# EAGLE library part M16C/22(144PIN) (library renesas_mcu)
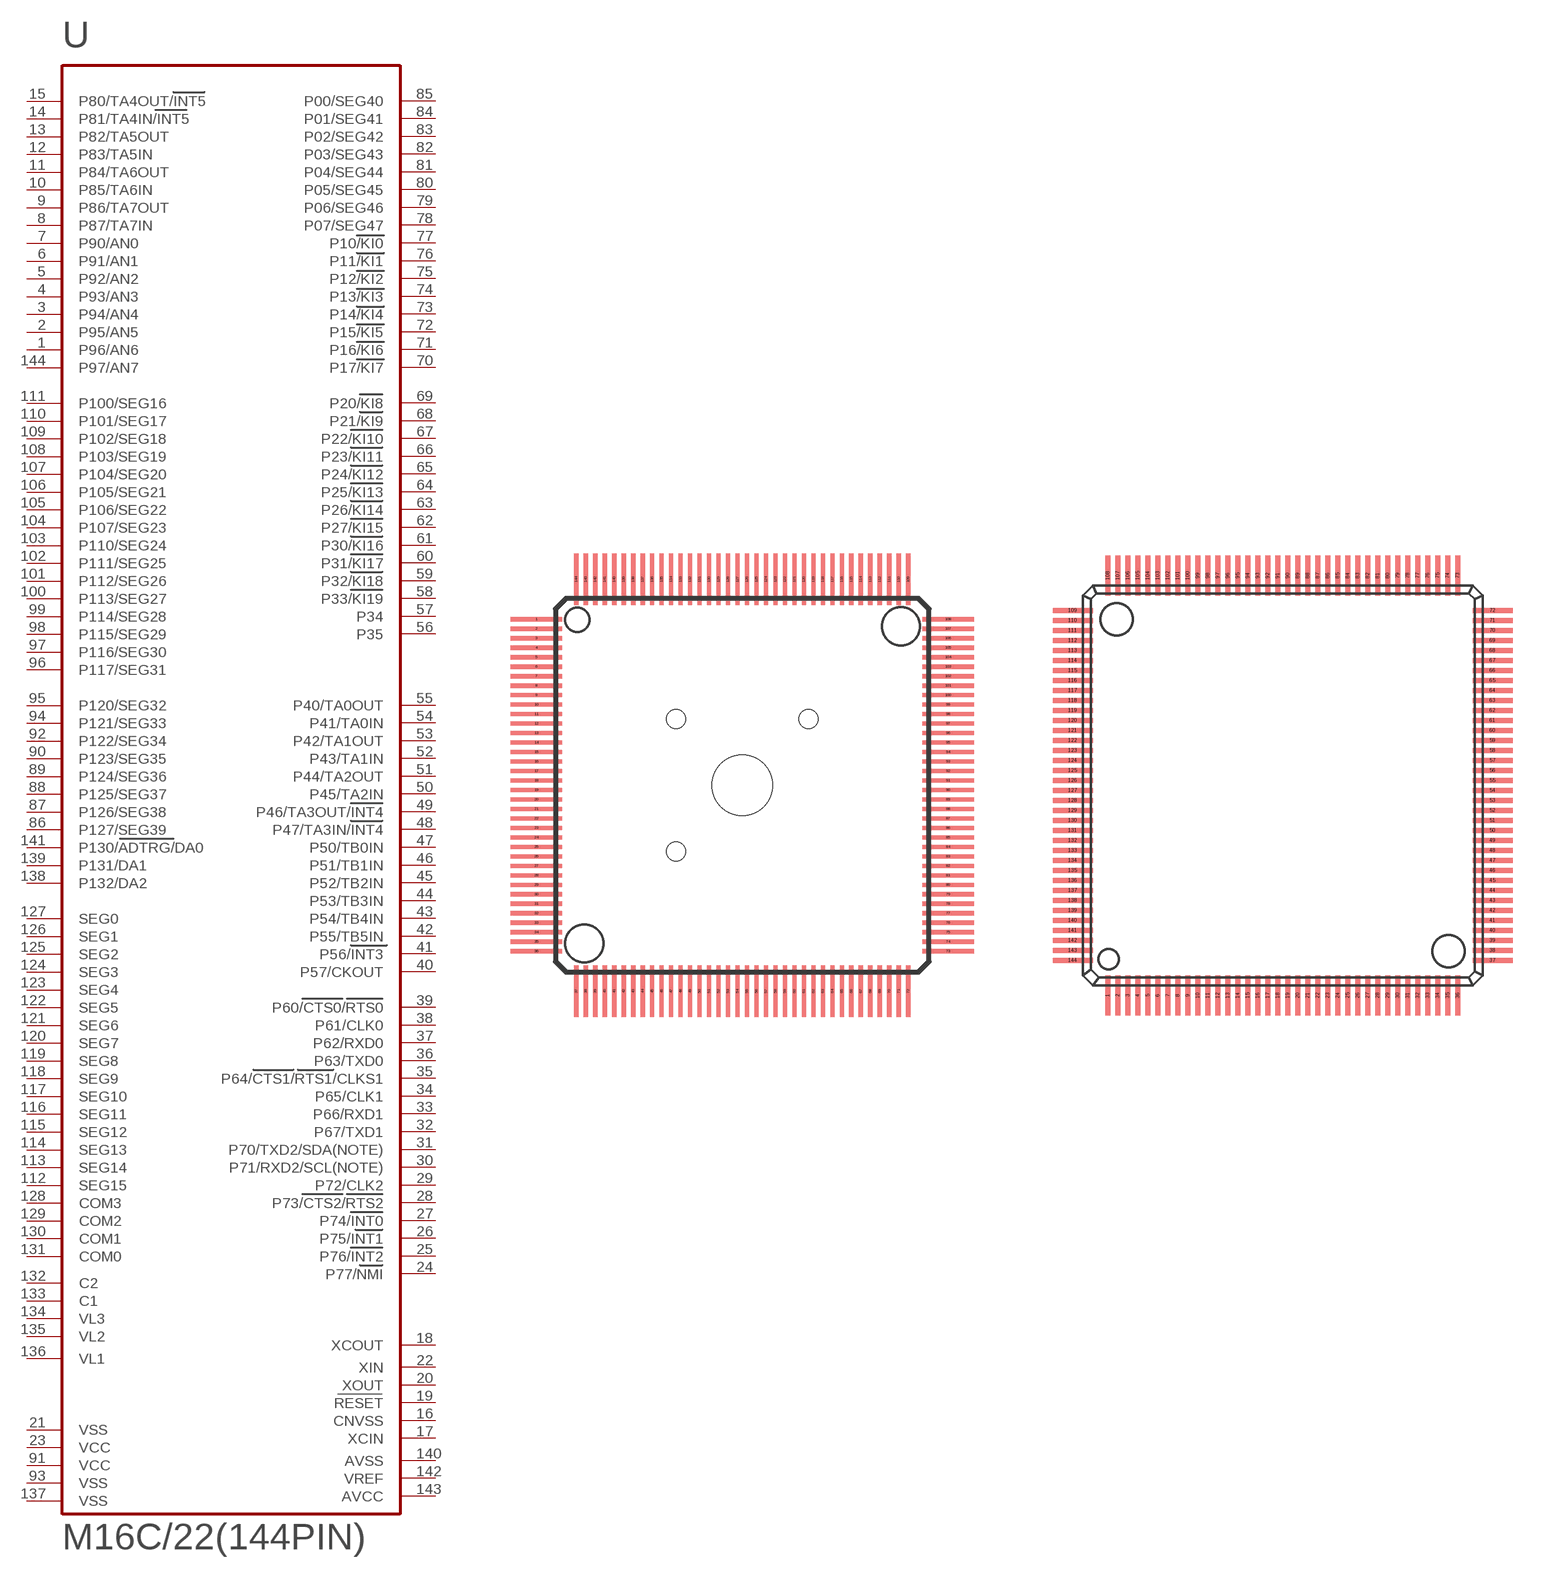
[diagram p15: symbol with the pads of 144P6Q-A(SOCKET); footprints 144P6Q-A(SOCKET), 144P6Q-A]

Designator prefix -

## M16C/22(144PIN)2  [144P6Q-A(SOCKET)]
1  P96/AN6
2  P95/AN5
3  P94/AN4
4  P93/AN3
5  P92/AN2
6  P91/AN1
7  P90/AN0
8  P87/TA7IN
9  P86/TA7OUT
10  P85/TA6IN  in
11  P84/TA6OUT
12  P83/TA5IN
13  P82/TA5OUT
14  P81/TA4IN/INT5
15  P80/TA4OUT/INT5
16  CNVSS  in
17  XCIN  in
18  XCOUT  out
19  RESET  in
20  XOUT  out
21  VSS  pwr
22  XIN  in
23  VCC  pwr
24  P77/NMI
25  P76/INT2
26  P75/INT1
27  P74/INT0
28  P73/CTS2/RTS2
29  P72/CLK2
30  P71/RXD2/SCL(NOTE)
31  P70/TXD2/SDA(NOTE)
32  P67/TXD1
33  P66/RXD1
34  P65/CLK1
35  P64/CTS1/RTS1/CLKS1
36  P63/TXD0
37  P62/RXD0
38  P61/CLK0
39  P60/CTS0/RTS0
40  P57/CKOUT
41  P56/INT3
42  P55/TB5IN
43  P54/TB4IN
44  P53/TB3IN
45  P52/TB2IN
46  P51/TB1IN
47  P50/TB0IN
48  P47/TA3IN/INT4
49  P46/TA3OUT/INT4
50  P45/TA2IN
51  P44/TA2OUT
52  P43/TA1IN
53  P42/TA1OUT
54  P41/TA0IN
55  P40/TA0OUT
56  P35
57  P34
58  P33/KI19
59  P32/KI18
60  P31/KI17
61  P30/KI16
62  P27/KI15
63  P26/KI14
64  P25/KI13
65  P24/KI12
66  P23/KI11
67  P22/KI10
68  P21/KI9
69  P20/KI8
70  P17/KI7
71  P16/KI6
72  P15/KI5
73  P14/KI4
74  P13/KI3
75  P12/KI2
76  P11/KI1
77  P10/KI0
78  P07/SEG47
79  P06/SEG46
80  P05/SEG45
81  P04/SEG44
82  P03/SEG43
83  P02/SEG42
84  P01/SEG41
85  P00/SEG40
86  P127/SEG39
87  P126/SEG38
88  P125/SEG37
89  P124/SEG36
90  P123/SEG35
91  VCC  pwr
92  P122/SEG34
93  VSS  pwr
94  P121/SEG33
95  P120/SEG32
96  P117/SEG31
97  P116/SEG30
98  P115/SEG29
99  P114/SEG28
100  P113/SEG27
101  P112/SEG26
102  P111/SEG25
103  P110/SEG24
104  P107/SEG23
105  P106/SEG22
106  P105/SEG21
107  P104/SEG20
108  P103/SEG19
109  P102/SEG18
110  P101/SEG17
111  P100/SEG16
112  SEG15  out
113  SEG14  out
114  SEG13  out
115  SEG12  out
116  SEG11  out
117  SEG10  out
118  SEG9  out
119  SEG8  out
120  SEG7  out
121  SEG6  out
122  SEG5  out
123  SEG4  out
124  SEG3  out
125  SEG2  out
126  SEG1  out
127  SEG0  out
128  COM3  out
129  COM2  out
130  COM1  out
131  COM0  out
132  C2  in
133  C1  in
134  VL3  in
135  VL2  in
136  VL1  in
137  VSS  pwr
138  P132/DA2
139  P131/DA1
140  AVSS  in
141  P130/ADTRG/DA0
142  VREF  in
143  AVCC  in
144  P97/AN7

## M16C/22(144PIN)1  [144P6Q-A]
Pads as for 144P6Q-A(SOCKET)

## Footprint 144P6Q-A(SOCKET) (pad centres in mm)
smd 2.7 x 0.225: 1 -10.85,8.75; 2 -10.85,8.25; 3 -10.85,7.75; 4 -10.85,7.25; 5 -10.85,6.75; 6 -10.85,6.25; 7 -10.85,5.75; 8 -10.85,5.25; 9 -10.85,4.75; 10 -10.85,4.25; 11 -10.85,3.75; 12 -10.85,3.25; 13 -10.85,2.75; 14 -10.85,2.25; 15 -10.85,1.75; 16 -10.85,1.25; 17 -10.85,0.75; 18 -10.85,0.25; 19 -10.85,-0.25; 20 -10.85,-0.75; 21 -10.85,-1.25; 22 -10.85,-1.75; 23 -10.85,-2.25; 24 -10.85,-2.75; 25 -10.85,-3.25; 26 -10.85,-3.75; 27 -10.85,-4.25; 28 -10.85,-4.75; 29 -10.85,-5.25; 30 -10.85,-5.75; 31 -10.85,-6.25; 32 -10.85,-6.75; 33 -10.85,-7.25; 34 -10.85,-7.75; 35 -10.85,-8.25; 36 -10.85,-8.75; 73 10.85,-8.75; 74 10.85,-8.25; 75 10.85,-7.75; 76 10.85,-7.25; 77 10.85,-6.75; 78 10.85,-6.25; 79 10.85,-5.75; 80 10.85,-5.25; 81 10.85,-4.75; 82 10.85,-4.25; 83 10.85,-3.75; 84 10.85,-3.25; 85 10.85,-2.75; 86 10.85,-2.25; 87 10.85,-1.75; 88 10.85,-1.25; 89 10.85,-0.75; 90 10.85,-0.25; 91 10.85,0.25; 92 10.85,0.75; 93 10.85,1.25; 94 10.85,1.75; 95 10.85,2.25; 96 10.85,2.75; 97 10.85,3.25; 98 10.85,3.75; 99 10.85,4.25; 100 10.85,4.75; 101 10.85,5.25; 102 10.85,5.75; 103 10.85,6.25; 104 10.85,6.75; 105 10.85,7.25; 106 10.85,7.75; 107 10.85,8.25; 108 10.85,8.75
smd 0.225 x 2.7: 37 -8.75,-10.85; 38 -8.25,-10.85; 39 -7.75,-10.85; 40 -7.25,-10.85; 41 -6.75,-10.85; 42 -6.25,-10.85; 43 -5.75,-10.85; 44 -5.25,-10.85; 45 -4.75,-10.85; 46 -4.25,-10.85; 47 -3.75,-10.85; 48 -3.25,-10.85; 49 -2.75,-10.85; 50 -2.25,-10.85; 51 -1.75,-10.85; 52 -1.25,-10.85; 53 -0.75,-10.85; 54 -0.25,-10.85; 55 0.25,-10.85; 56 0.75,-10.85; 57 1.25,-10.85; 58 1.75,-10.85; 59 2.25,-10.85; 60 2.75,-10.85; 61 3.25,-10.85; 62 3.75,-10.85; 63 4.25,-10.85; 64 4.75,-10.85; 65 5.25,-10.85; 66 5.75,-10.85; 67 6.25,-10.85; 68 6.75,-10.85; 69 7.25,-10.85; 70 7.75,-10.85; 71 8.25,-10.85; 72 8.75,-10.85; 109 8.75,10.85; 110 8.25,10.85; 111 7.75,10.85; 112 7.25,10.85; 113 6.75,10.85; 114 6.25,10.85; 115 5.75,10.85; 116 5.25,10.85; 117 4.75,10.85; 118 4.25,10.85; 119 3.75,10.85; 120 3.25,10.85; 121 2.75,10.85; 122 2.25,10.85; 123 1.75,10.85; 124 1.25,10.85; 125 0.75,10.85; 126 0.25,10.85; 127 -0.25,10.85; 128 -0.75,10.85; 129 -1.25,10.85; 130 -1.75,10.85; 131 -2.25,10.85; 132 -2.75,10.85; 133 -3.25,10.85; 134 -3.75,10.85; 135 -4.25,10.85; 136 -4.75,10.85; 137 -5.25,10.85; 138 -5.75,10.85; 139 -6.25,10.85; 140 -6.75,10.85; 141 -7.25,10.85; 142 -7.75,10.85; 143 -8.25,10.85; 144 -8.75,10.85
hole 3.2 at 0,0
hole 1 at -3.5,3.5
hole 1 at 3.5,3.5
hole 1 at -3.5,-3.5

## Footprint 144P6Q-A (pad centres in mm)
smd 0.25 x 2: 1 -8.75,-10.5; 2 -8.25,-10.5; 3 -7.75,-10.5; 4 -7.25,-10.5; 5 -6.75,-10.5; 6 -6.25,-10.5; 7 -5.75,-10.5; 8 -5.25,-10.5; 9 -4.75,-10.5; 10 -4.25,-10.5; 11 -3.75,-10.5; 12 -3.25,-10.5; 13 -2.75,-10.5; 14 -2.25,-10.5; 15 -1.75,-10.5; 16 -1.25,-10.5; 17 -0.75,-10.5; 18 -0.25,-10.5; 19 0.25,-10.5; 20 0.75,-10.5; 21 1.25,-10.5; 22 1.75,-10.5; 23 2.25,-10.5; 24 2.75,-10.5; 25 3.25,-10.5; 26 3.75,-10.5; 27 4.25,-10.5; 28 4.75,-10.5; 29 5.25,-10.5; 30 5.75,-10.5; 31 6.25,-10.5; 32 6.75,-10.5; 33 7.25,-10.5; 34 7.75,-10.5; 35 8.25,-10.5; 36 8.75,-10.5; 73 8.75,10.5; 74 8.25,10.5; 75 7.75,10.5; 76 7.25,10.5; 77 6.75,10.5; 78 6.25,10.5; 79 5.75,10.5; 80 5.25,10.5; 81 4.75,10.5; 82 4.25,10.5; 83 3.75,10.5; 84 3.25,10.5; 85 2.75,10.5; 86 2.25,10.5; 87 1.75,10.5; 88 1.25,10.5; 89 0.75,10.5; 90 0.25,10.5; 91 -0.25,10.5; 92 -0.75,10.5; 93 -1.25,10.5; 94 -1.75,10.5; 95 -2.25,10.5; 96 -2.75,10.5; 97 -3.25,10.5; 98 -3.75,10.5; 99 -4.25,10.5; 100 -4.75,10.5; 101 -5.25,10.5; 102 -5.75,10.5; 103 -6.25,10.5; 104 -6.75,10.5; 105 -7.25,10.5; 106 -7.75,10.5; 107 -8.25,10.5; 108 -8.75,10.5
smd 2 x 0.25: 37 10.5,-8.75; 38 10.5,-8.25; 39 10.5,-7.75; 40 10.5,-7.25; 41 10.5,-6.75; 42 10.5,-6.25; 43 10.5,-5.75; 44 10.5,-5.25; 45 10.5,-4.75; 46 10.5,-4.25; 47 10.5,-3.75; 48 10.5,-3.25; 49 10.5,-2.75; 50 10.5,-2.25; 51 10.5,-1.75; 52 10.5,-1.25; 53 10.5,-0.75; 54 10.5,-0.25; 55 10.5,0.25; 56 10.5,0.75; 57 10.5,1.25; 58 10.5,1.75; 59 10.5,2.25; 60 10.5,2.75; 61 10.5,3.25; 62 10.5,3.75; 63 10.5,4.25; 64 10.5,4.75; 65 10.5,5.25; 66 10.5,5.75; 67 10.5,6.25; 68 10.5,6.75; 69 10.5,7.25; 70 10.5,7.75; 71 10.5,8.25; 72 10.5,8.75; 109 -10.5,8.75; 110 -10.5,8.25; 111 -10.5,7.75; 112 -10.5,7.25; 113 -10.5,6.75; 114 -10.5,6.25; 115 -10.5,5.75; 116 -10.5,5.25; 117 -10.5,4.75; 118 -10.5,4.25; 119 -10.5,3.75; 120 -10.5,3.25; 121 -10.5,2.75; 122 -10.5,2.25; 123 -10.5,1.75; 124 -10.5,1.25; 125 -10.5,0.75; 126 -10.5,0.25; 127 -10.5,-0.25; 128 -10.5,-0.75; 129 -10.5,-1.25; 130 -10.5,-1.75; 131 -10.5,-2.25; 132 -10.5,-2.75; 133 -10.5,-3.25; 134 -10.5,-3.75; 135 -10.5,-4.25; 136 -10.5,-4.75; 137 -10.5,-5.25; 138 -10.5,-5.75; 139 -10.5,-6.25; 140 -10.5,-6.75; 141 -10.5,-7.25; 142 -10.5,-7.75; 143 -10.5,-8.25; 144 -10.5,-8.75